# Altium footprint library MAX14759ETAT.PcbLib: 1 footprints
Each footprint in its own frame and in the unit in brackets; x right, y up, seen from the top. Pads: shape width x height; smd on the part's side, far side on the other; paste and mask are expansions set on the pad; w line width, h text height; cw(c..) or ccw(c..) is an arc to the next point about the centre after c.
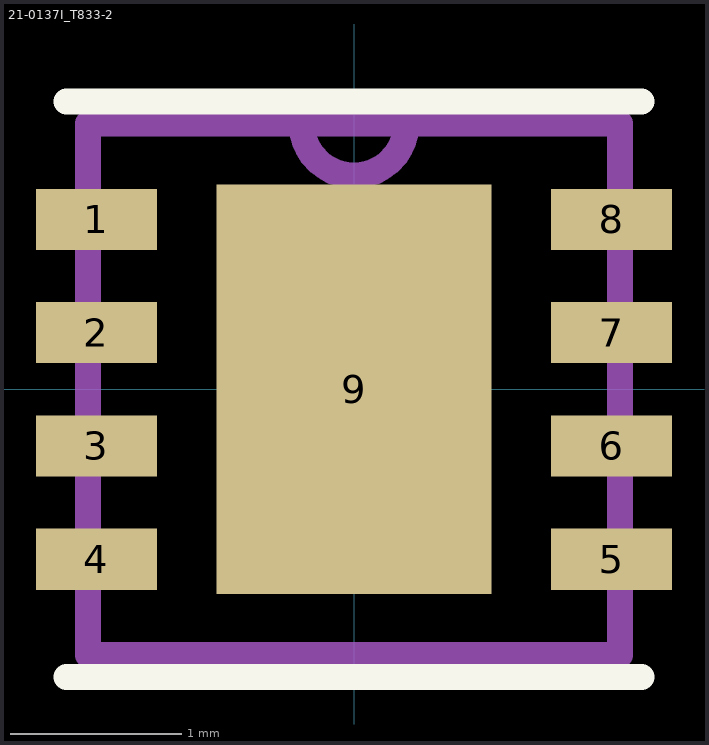
[diagram p0: the footprint, top view; thin cyan lines are the x and y axes]

## 21-0137I_T833-2 [mil]
pads (9):
  rect 27.75x14 smd: 1(-59.13,39) 2(-59.13,13) 3(-59.13,-13) 4(-59.13,-39) 5(59.13,-39) 6(59.13,-13) 7(59.13,13) 8(59.13,39)
  rect 63x94 smd: 9(0,0)
Top Overlay:
  lines w6: -66,-66 66,-66 ; -66,66 66,66
Top Paste:
  region: -31.5,47 -31.5,-47 31.5,-47 31.5,47
Mechanical 4:
  lines w6: -61,-61 61,-61 ; -61,-61 -61,61 ; -61,-61 61,-61 ; -61,-61 -61,61 ; -61,61 -12,61 ; -61,61 -12,61 ; -12,61 ccw(c0,61) 12,61 ; -12,61 ccw(c0,61) 12,61 ; -12,61 12,61 ; -12,61 12,61 ; 12,61 61,61 ; 12,61 61,61 ; 61,-61 61,61 ; 61,-61 61,61
3D body "21-0137I_T833-2.stp": height 32.09, standoff 0, extent -60.98,-60.98 60.99,61